# Altium schematic symbol library CP2102N-A02-GQFN28.SCHLIB: 1 symbol
Pins are listed as number, name and electrical type; pins without a type are passive.

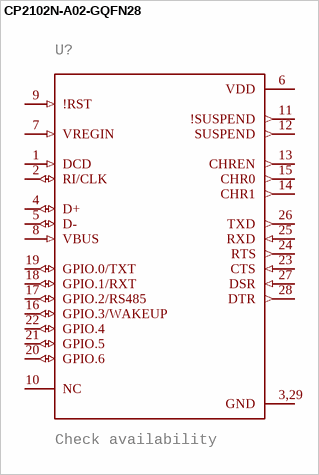
[diagram p0: symbol CP2102N-A02-GQFN28]

## CP2102N-A02-GQFN28
designator U?, comment Check availability
GateName_1: G$1; SymbolName_1: CP2102N-A02-GQFN28; MF: Silicon Labs; LibraryName: CP2102N-A02-GQFN28; DeviceSetName: CP2102N-A02-GQFN28; Package: QFN50P500X500X80-29N; Package: WFQFN-28 Silicon Labs; Price: None; Check_prices: https://www.snapeda.com/parts/CP2102N-A02-GQFN28/Silicon+Labs/view-part/?ref=eda; SnapEDA_Link: https://www.snapeda.com/parts/CP2102N-A02-GQFN28/Silicon+Labs/view-part/?ref=snap; MP: CP2102N-A02-GQFN28; Availability: In Stock; Purchase-URL: https://www.snapeda.com/api/url_track_click_mouser/?unipart_id=4872321&manufacturer=Silicon Labs&part_name=CP2102N-A02-GQFN28&search_term=cp2102n-a02-gqfn28
footprint QFN50P500X500X80-29N
pins: 1 DCD (in), 2 RI/CLK (io), 3,29 GND (power), 4 D+ (io), 5 D- (io), 6 VDD (power), 7 VREGIN (in), 8 VBUS (in), 9 !RST (in), 10 NC, 11 !SUSPEND (out), 12 SUSPEND (out), 13 CHREN (out), 14 CHR1 (out), 15 CHR0 (out), 16 GPIO.3/WAKEUP (io), 17 GPIO.2/RS485 (io), 18 GPIO.1/RXT (io), 19 GPIO.0/TXT (io), 20 GPIO.6 (io), 21 GPIO.5 (io), 22 GPIO.4 (io), 23 CTS (in), 24 RTS (out), 25 RXD (in), 26 TXD (out), 27 DSR (in), 28 DTR (out)